# EAGLE library part MCP33151 (library MCP33151)
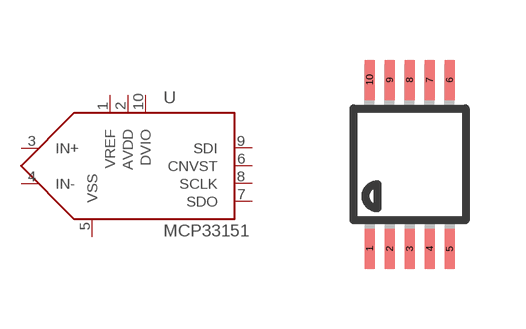
[diagram p0: symbol with the pads of MSOP10; footprint MSOP10]

Designator prefix -

## MCP33151  [MSOP10]
1  VREF  pwr
2  AVDD  pwr
3  IN+  in
4  IN-  in
5  VSS  pwr
6  CNVST  in
7  SDO  out
8  SCLK  in
9  SDI  in
10  DVIO  pwr

## Footprint MSOP10 (pad centres in mm)
smd 0.25 x 1: 1 -1,-2.113; 2 -0.5,-2.113; 3 0,-2.113; 4 0.5,-2.113; 5 1,-2.113; 6 1,2.113; 7 0.5,2.113; 8 0,2.113; 9 -0.5,2.113; 10 -1,2.113